# Altium footprint library NSVR0170MX2WT5G.PcbLib: 1 footprints
Each footprint in its own frame and in the unit in brackets; x right, y up, seen from the top. Pads: shape width x height; smd on the part's side, far side on the other; paste and mask are expansions set on the pad; w line width, h text height; cw(c..) or ccw(c..) is an arc to the next point about the centre after c.
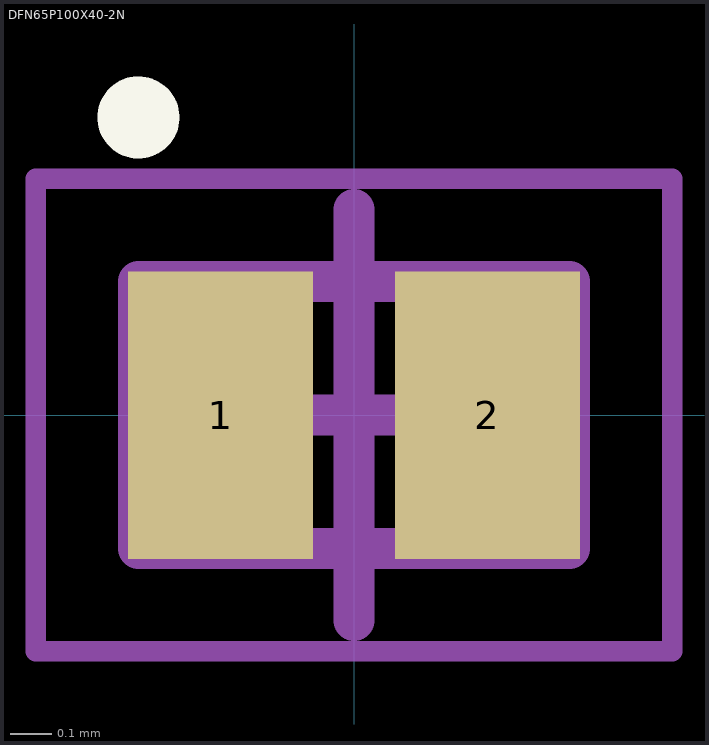
[diagram p0: the footprint, top view; thin cyan lines are the x and y axes]

## DFN65P100X40-2N [mm] "DFN, 2-Leads, Body 0.60x1.00mm, Pitch 0.65mm, IPC Medium Density"
height 0.4
pads (2):
  rect 0.45x0.7 smd: 1(-0.325,0) 2(0.325,0)
Top Overlay:
  circle w0.1: c-0.525,0.725 r0.05
Mechanical 13:
  lines w0.1: -0.525,-0.325 0.525,-0.325 0.525,0.325 -0.525,0.325 -0.525,-0.325
Mechanical 15:
  lines w0.05: -0.775,-0.575 0.775,-0.575 0.775,0.575 -0.775,0.575 -0.775,-0.575
  lines w0.1: -0.5,0 0.5,0 ; 0,-0.5 0,0.5
3D body "DFN65P100X40-2N.step": height 0.4, standoff 0, extent -0.525,-0.325 0.525,0.325